# Altium schematic symbol library Circuitos Integrados.SchLib: 43 symbols
Pins are listed as number, name and electrical type; pins without a type are passive.

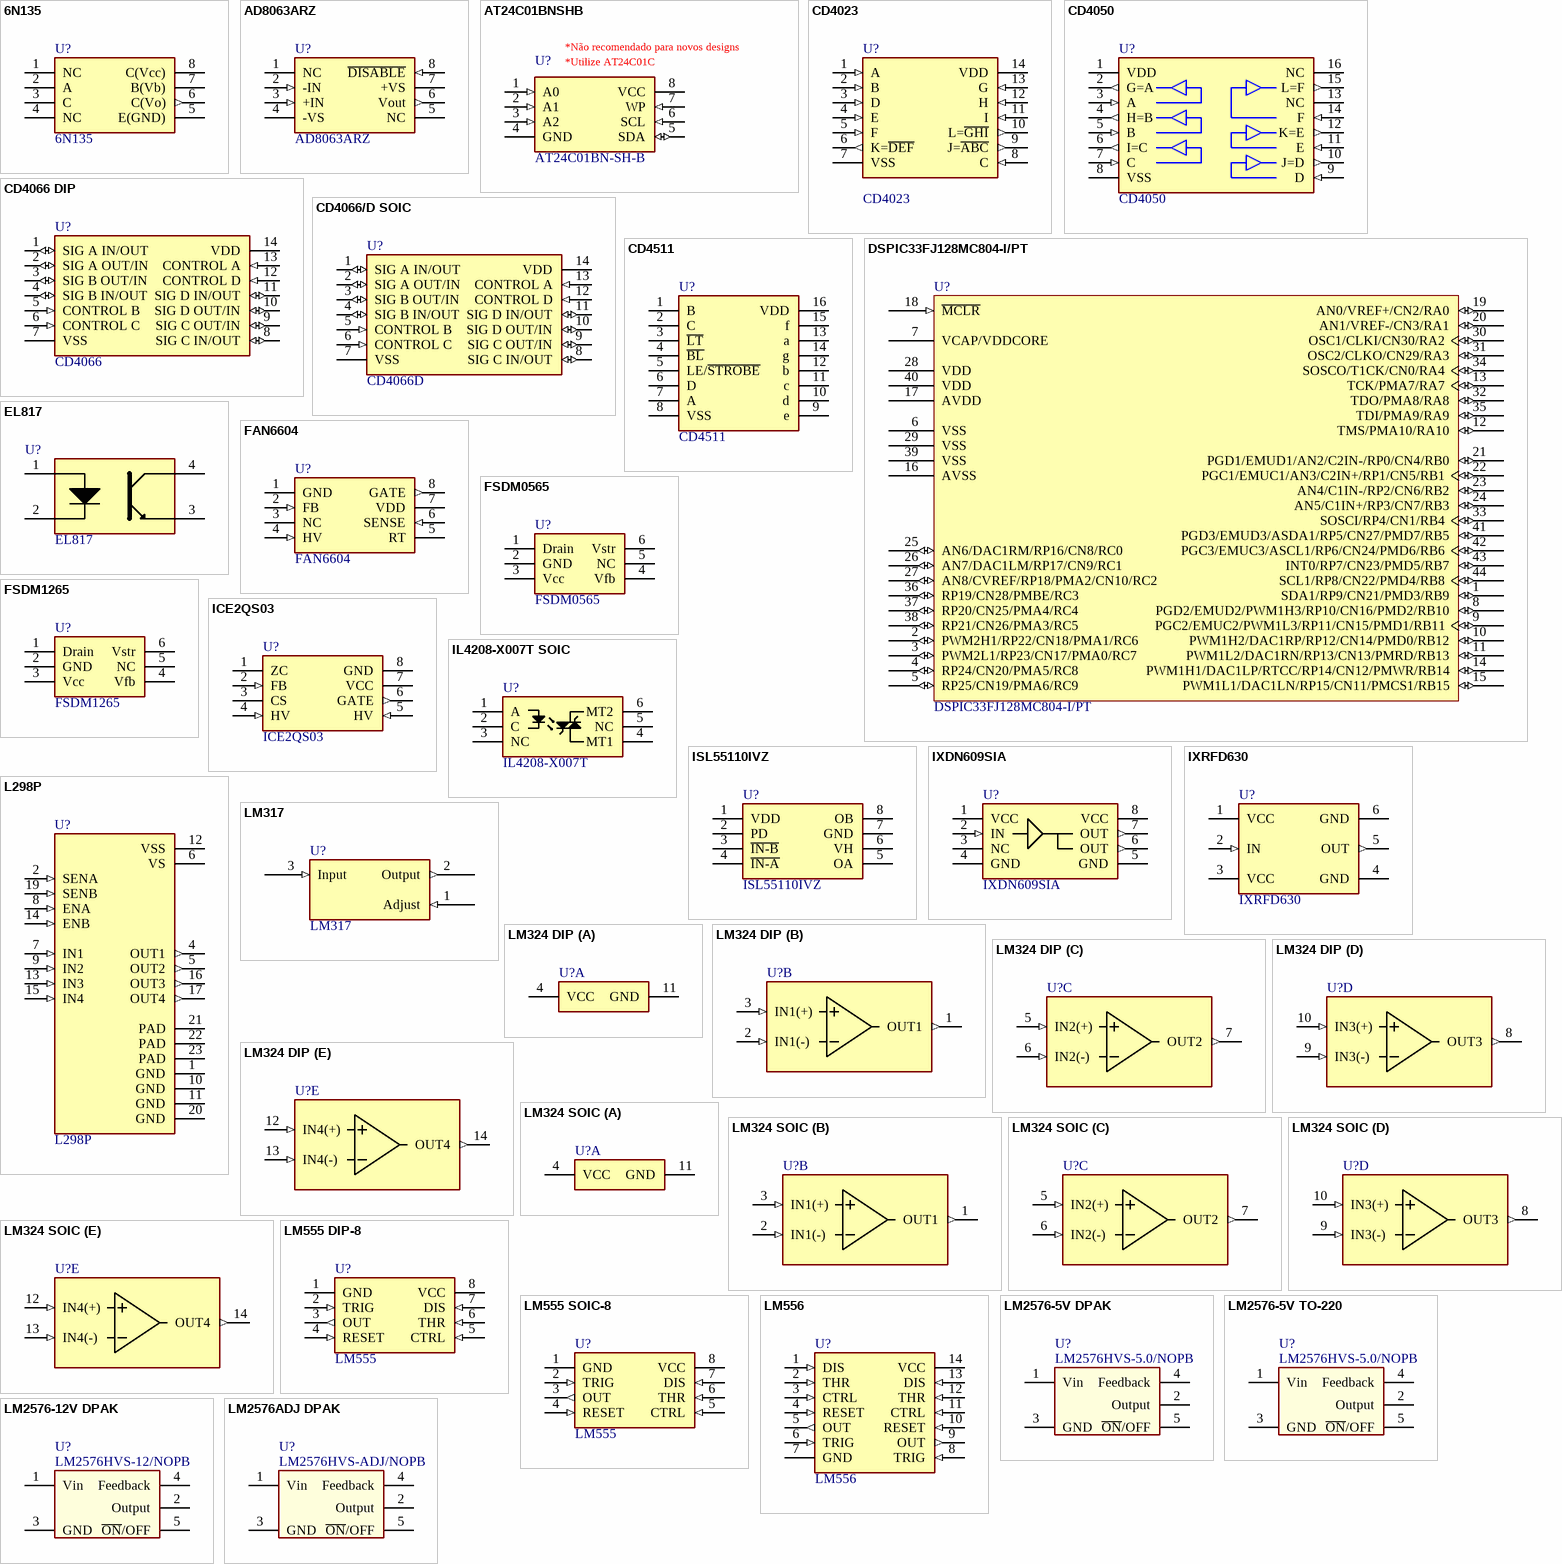
[diagram p0: symbols 6N135 to LM2576ADJ DPAK]

## 6N135
designator U?
6N135 HIGH SPEED OPTOCOUPLER; Montagem: PTH; ComponentLink1Description: Datasheet; ComponentLink1URL: http://www.vishay.com/docs/83604/6n135.pdf; Supplier 1: Farnell; Supplier Part Number 1: 1021342; Valor/Partnumber: 6N135
footprint DIP8
pins: 1 NC (hiz), 2 A (power), 3 C (power), 4 NC (hiz), 5 E(GND) (power), 6 C(Vo) (out), 7 B(Vb), 8 C(Vcc) (power)

## AD8063ARZ
designator U?
AD8063ARZ Rail-to-Rail Amplifiers; Montagem: SMD; ComponentLink1Description: Datasheet; ComponentLink1URL: http://www.analog.com/media/en/technical-documentation/data-sheets/AD8061_8062_8063.pdf; Supplier 1: Newark; Supplier Part Number 1: 59K6312; Valor/Partnumber: AD8063ARZ
footprint SOIC-8 (SOIC, 8-Leads, Body 5,0x4,0mm (max), Pitch 1,27mm, IPC Medium Density)
pins: 1 NC (hiz), 2 -IN (in), 3 +IN (in), 4 -VS (power), 5 NC (hiz), 6 Vout (out), 7 +VS (power), 8 ~{DISABLE} (in)

## AT24C01BNSHB
designator U?, comment Valor/Partnumber: AT24C01BN-SH-B  (hidden comment: Two wire Serial EEPROM)
Montagem: SMD; Fabricante: Atmel; ComponentLink1Description: Datasheet; ComponentLink1URL: http://www.atmel.com/Images/doc5156.pdf; Supplier 1: Mouser; Supplier Part Number 1: 556-A24C01BNSH-B
footprint SOIC-8 (SOIC, 8-Leads, Body 5,0x4,0mm (max), Pitch 1,27mm, IPC Medium Density)
pins: 1 A0 (in), 2 A1 (in), 3 A2 (in), 4 GND (power), 5 SDA (io), 6 SCL (in), 7 WP (in), 8 VCC (power)
text: *Não recomendado para novos designs; *Utilize AT24C01C

## CD4023
designator U?
Montagem: PTH; ComponentLink1Description: Datasheet; Valor/Partnumber: CD4023
footprint DIP14
pins: 1 A (in), 2 B (in), 3 D (in), 4 E (in), 5 F (in), 6 K=~{DEF} (out), 7 VSS (power), 8 C (in), 9 J=~{ABC} (out), 10 L=~{GHI} (out), 11 I (in), 12 H (in), 13 G (in), 14 VDD (power)

## CD4050
designator U?
CD4050 Hex Non-Inverting Buffer; Montagem: PTH; ComponentLink1Description: Datasheet; ComponentLink1URL: https://www.fairchildsemi.com/datasheets/CD/CD4049UBC.pdf; Supplier 1: Farnell; Supplier Part Number 1: 1106108; Valor/Partnumber: CD4050
footprint DIP16
pins: 1 VDD (power), 2 G=A (out), 3 A (in), 4 H=B (out), 5 B (in), 6 I=C (out), 7 C (in), 8 VSS (power), 9 D (in), 10 J=D (out), 11 E (in), 12 K=E (out), 13 NC (hiz), 14 F (in), 15 L=F (out), 16 NC (hiz)

## CD4066 DIP
designator U?  Valor/Partnumber: CD4066  (hidden comment: CD4066 DIP)
CD4066 CMOS BILATERAL SWITCH; Montagem: PTH; ComponentLink1Description: Datasheet; ComponentLink1URL: http://www.ti.com/lit/ds/symlink/cd4066b.pdf; Supplier 1: Digi-Key; Supplier Part Number 1: 296-2061-5-ND
footprint DIP14
pins: 1 SIG A IN/OUT (io), 2 SIG A OUT/IN (io), 3 SIG B OUT/IN (io), 4 SIG B IN/OUT (io), 5 CONTROL B (in), 6 CONTROL C (in), 7 VSS (power), 8 SIG C IN/OUT (io), 9 SIG C OUT/IN (io), 10 SIG D OUT/IN (io), 11 SIG D IN/OUT (io), 12 CONTROL D (in), 13 CONTROL A (in), 14 VDD (power)

## CD4066/D SOIC
designator U?  Valor/Partnumber: CD4066D  (hidden comment: CD4066/D SOIC)
CD4066 CMOS BILATERAL SWITCH; Montagem: SMD; ComponentLink1Description: Datasheet; ComponentLink1URL: http://www.ti.com/lit/ds/symlink/cd4066b.pdf; Supplier 1: Farnell; Supplier Part Number 1: 2334928
footprint SO-14 (SOIC, 14-Leads, Pitch 1,27mm)
pins: 1 SIG A IN/OUT (io), 2 SIG A OUT/IN (io), 3 SIG B OUT/IN (io), 4 SIG B IN/OUT (io), 5 CONTROL B (in), 6 CONTROL C (in), 7 VSS (power), 8 SIG C IN/OUT (io), 9 SIG C OUT/IN (io), 10 SIG D OUT/IN (io), 11 SIG D IN/OUT (io), 12 CONTROL D (in), 13 CONTROL A (in), 14 VDD (power)

## CD4511
designator U?
CD4511 CMOS BCD to 7 Segment Latch Decoder Drivers; Montagem: PTH; ComponentLink1Description: Datasheet; ComponentLink1URL: http://www.ti.com/lit/ds/symlink/cd4511b.pdf; Supplier 1: Mouser; Supplier Part Number 1: 595-CD4511BE; Valor/Partnumber: CD4511
footprint DIP16
pins: 1 B, 2 C, 3 ~{LT}, 4 ~{BL}, 5 LE/~{STROBE}, 6 D, 7 A, 8 VSS (power), 9 e, 10 d, 11 c, 12 b, 13 a, 14 g, 15 f, 16 VDD (power)

## DSPIC33FJ128MC804-I/PT
designator U?
High-Performance 16-bit Digital Signal Controller, 128 KB Flash, 16 KB RAM, 44-Pin TQFP
footprint TQFP-44 (TQFP, 44-Leads, Body 12,2x12,2mm (max), Pitch 0,80mm, IPC Medium Density)
pins: 1 SDA1/RP9/CN21/PMD3/RB9 (io), 2 PWM2H1/RP22/CN18/PMA1/RC6 (io), 3 PWM2L1/RP23/CN17/PMA0/RC7 (io), 4 RP24/CN20/PMA5/RC8 (io), 5 RP25/CN19/PMA6/RC9 (io), 6 VSS (power), 7 VCAP/VDDCORE (power), 8 PGD2/EMUD2/PWM1H3/RP10/CN16/PMD2/RB10 (io), 9 PGC2/EMUC2/PWM1L3/RP11/CN15/PMD1/RB11 (io), 10 PWM1H2/DAC1RP/RP12/CN14/PMD0/RB12 (io), 11 PWM1L2/DAC1RN/RP13/CN13/PMRD/RB13 (io), 12 TMS/PMA10/RA10 (io), 13 TCK/PMA7/RA7 (io), 14 PWM1H1/DAC1LP/RTCC/RP14/CN12/PMWR/RB14 (io), 15 PWM1L1/DAC1LN/RP15/CN11/PMCS1/RB15 (io), 16 AVSS (power), 17 AVDD (power), 18 ~{MCLR} (in), 19 AN0/VREF+/CN2/RA0 (io), 20 AN1/VREF-/CN3/RA1 (io), 21 PGD1/EMUD1/AN2/C2IN-/RP0/CN4/RB0 (io), 22 PGC1/EMUC1/AN3/C2IN+/RP1/CN5/RB1 (io), 23 AN4/C1IN-/RP2/CN6/RB2 (io), 24 AN5/C1IN+/RP3/CN7/RB3 (io), 25 AN6/DAC1RM/RP16/CN8/RC0 (io), 26 AN7/DAC1LM/RP17/CN9/RC1 (io), 27 AN8/CVREF/RP18/PMA2/CN10/RC2 (io), 28 VDD (power), 29 VSS (power), 30 OSC1/CLKI/CN30/RA2 (io), 31 OSC2/CLKO/CN29/RA3 (io), 32 TDO/PMA8/RA8 (io), 33 SOSCI/RP4/CN1/RB4 (io), 34 SOSCO/T1CK/CN0/RA4 (io), 35 TDI/PMA9/RA9 (io), 36 RP19/CN28/PMBE/RC3 (io), 37 RP20/CN25/PMA4/RC4 (io), 38 RP21/CN26/PMA3/RC5 (io), 39 VSS (power), 40 VDD (power), 41 PGD3/EMUD3/ASDA1/RP5/CN27/PMD7/RB5 (io), 42 PGC3/EMUC3/ASCL1/RP6/CN24/PMD6/RB6 (io), 43 INT0/RP7/CN23/PMD5/RB7 (io), 44 SCL1/RP8/CN22/PMD4/RB8 (io)

## EL817
designator U?
EL817 PHOTOTRANSISTOR PHOTOCOUPLER; Montagem: PTH; ComponentLink1Description: Datasheet; ComponentLink1URL: http://www.everlight.com/file/ProductFile/EL817.pdf; Supplier 1: TME; Supplier Part Number 1: EL817; Valor/Partnumber: EL817
footprint DIP4
pins: 1 Anode, 2 Cathode, 3 Emitter, 4 Collector

## FAN6604
designator U?
Montagem: SMD; ComponentLink1Description: Datasheet; ComponentLink1URL: https://www.fairchildsemi.com/datasheets/FA/FAN6604.pdf; Fabricante: *; Supplier 1: Digi-Key; Supplier Part Number 1: FAN6604MRMXDKR-ND; Valor/Partnumber: FAN6604
footprint SOIC-8 (SOIC, 8-Leads, Body 5,0x4,0mm (max), Pitch 1,27mm, IPC Medium Density)
pins: 1 GND (power), 2 FB (in), 3 NC (hiz), 4 HV (in), 5 RT, 6 SENSE (in), 7 VDD (power), 8 GATE (out)

## FSDM0565
designator U?
FSDM0565 Green Mode Fairchild Power Switch; Montagem: PTH; ComponentLink1Description: Datasheet; ComponentLink1URL: https://www.fairchildsemi.com/datasheets/FS/FSDM0565RB.pdf; Fabricante: *; Supplier 1: Mouser; Supplier Part Number 1: 512-FSDM0565REWDTU; Valor/Partnumber: FSDM0565
footprint TO-220L-6F
pins: 1 Drain, 2 GND (power), 3 Vcc (power), 4 Vfb, 5 NC (hiz), 6 Vstr

## FSDM1265
designator U?
FSDM1265 Green Mode Fairchild Power Switch; Montagem: PTH; ComponentLink1Description: Datasheet; ComponentLink1URL: https://www.fairchildsemi.com/datasheets/FS/FSDM1265RB.pdf; Fabricante: *; Supplier 1: Digi-Key; Supplier Part Number 1: FSDM1265RBWDTU-ND; Valor/Partnumber: FSDM1265
footprint TO-220L-6F
pins: 1 Drain, 2 GND (power), 3 Vcc (power), 4 Vfb, 5 NC (hiz), 6 Vstr

## ICE2QS03
designator U?
Montagem: PTH; ComponentLink1Description: Datasheet; ComponentLink1URL: http://www.infineon.com/dgdl/Infineon-ICE2QS03-DS-v02_02-en.pdf?fileId=db3a304325305e6d012566b50ebd7070; Fabricante: *; Supplier 1: Mouser; Supplier Part Number 1: 726-ICE2QS03XKLA1; Valor/Partnumber: ICE2QS03
footprint DIP8
pins: 1 ZC, 2 FB (in), 3 CS, 4 HV (in), 5 HV (in), 6 GATE (out), 7 VCC (power), 8 GND (power)

## IL4208-X007T SOIC
designator U?, comment IL4208-X007T
Montagem: SMD; ComponentLink1Description: Datasheet; ComponentLink1URL: http://www.vishay.com/docs/83629/il420.pdf; Supplier 1: Digi-Key; Supplier Part Number 1: IL4208-X007-ND; Valor/Partnumber: IL4208-X007T
footprint SO6-IL4208-X007T
pins: 1 A (power), 2 C (power), 3 NC (hiz), 4 MT1, 5 NC (hiz), 6 MT2

## ISL55110IVZ
designator U?
Montagem: SMD; Fabricante: Intersil; ComponentLink1Description: Datasheet; ComponentLink1URL: http://www.intersil.com/content/dam/Intersil/documents/isl5/isl55110-11.pdf; Supplier 1: Mouser; Supplier Part Number 1: 968-ISL55110IVZ; Valor/Partnumber: ISL55110IVZ
footprint TSSOP-8 (TSSOP, 8-Leads, Body 3,1x4,5mm (max), Pitch 0,65mm, IPC Low Density)
pins: 1 VDD (power), 2 PD, 3 ~{IN-B}, 4 ~{IN-A}, 5 OA, 6 VH, 7 GND (power), 8 OB

## IXDN609SIA
designator U?
IXDN609SIA 9-Ampere Low-Side  Ultrafast MOSFET Drivers; Montagem: SMD; ComponentLink1Description: Datasheet; ComponentLink1URL: http://www.ixysic.com/home/pdfs.nsf/www/IXD_609.pdf/$file/IXD_609.pdf; Fabricante: *; Supplier 1: Digi-Key; Supplier Part Number 1: IXDN609SIA-ND; Valor/Partnumber: IXDN609SIA
footprint SOIC-8 (SOIC, 8-Leads, Body 5,0x4,0mm (max), Pitch 1,27mm, IPC Medium Density)
pins: 1 VCC (power), 2 IN (in), 3 NC (hiz), 4 GND (power), 5 GND (power), 6 OUT (out), 7 OUT (out), 8 VCC (power)

## IXRFD630
designator U?
Montagem: SMD; ComponentLink1Description: Datasheet; ComponentLink1URL: *; Fabricante: *; Valor/Partnumber: IXRFD630
footprint DE_series
pins: 1 VCC (power), 2 IN (in), 3 VCC (power), 4 GND (power), 5 OUT (out), 6 GND (power)

## L298P
designator U?
L298 Series Dual Full Bridge 4 A 46 V Driver Surface Mount - PowerSO-20
footprint SOIC127P1420X360-20N
pins: 1 GND, 2 SENA (in), 4 OUT1 (out), 5 OUT2 (out), 6 VS (power), 7 IN1 (in), 8 ENA (in), 9 IN2 (in), 10 GND, 11 GND, 12 VSS (power), 13 IN3 (in), 14 ENB (in), 15 IN4 (in), 16 OUT3 (out), 17 OUT4 (out), 19 SENB (in), 20 GND, 21 PAD, 22 PAD, 23 PAD

## LM317
designator U?
LM317 3-Terminal Adjustable Regulator; Montagem: PTH; ComponentLink1Description: Datasheet; ComponentLink1URL: http://www.ti.com/lit/ds/symlink/lm317.pdf; Supplier 1: Farnell; Supplier Part Number 1: 1652293; Valor/Partnumber: LM317
footprint TO-220 (TO, Thru-Hole, Vertical, Heatsink Mounted; 3 In-Line Leads; Pitch 2.54 mm)
pins: 1 Adjust (in), 2 Output (out), 3 Input (in)

## LM324 DIP
designator U?  (value not drawn)
LM324 DIP Quad Operational Amplifier; Montagem: PTH; ComponentLink1Description: Datasheet; ComponentLink1URL: https://www.fairchildsemi.com/datasheets/LM/LM324.pdf; Fabricante: *; Supplier 1: TME; Supplier Part Number 1: LM324AN; Valor/Partnumber: LM324
footprint DIP14
part A pins: 4 VCC (power), 11 GND (power)
part B pins: 1 OUT1 (out), 2 IN1(-) (in), 3 IN1(+) (in)
part C pins: 5 IN2(+) (in), 6 IN2(-) (in), 7 OUT2 (out)
part D pins: 8 OUT3 (out), 9 IN3(-) (in), 10 IN3(+) (in)
part E pins: 12 IN4(+) (in), 13 IN4(-) (in), 14 OUT4 (out)

## LM324 SOIC
designator U?  (value not drawn)
LM324 SOIC Quad Operational Amplifier; Montagem: SMD; ComponentLink1Description: Datasheet; ComponentLink1URL: https://www.fairchildsemi.com/datasheets/LM/LM324.pdf; Fabricante: *; Valor/Partnumber: LM324
footprint DIP14
part A pins: 4 VCC (power), 11 GND (power)
part B pins: 1 OUT1 (out), 2 IN1(-) (in), 3 IN1(+) (in)
part C pins: 5 IN2(+) (in), 6 IN2(-) (in), 7 OUT2 (out)
part D pins: 8 OUT3 (out), 9 IN3(-) (in), 10 IN3(+) (in)
part E pins: 12 IN4(+) (in), 13 IN4(-) (in), 14 OUT4 (out)

## LM555 DIP-8
designator U?, comment Valor/Partnumber: LM555  (hidden comment: LM555 Timer)
LM555 Timer DIP; Montagem: PTH; Fabricante: Texas; ComponentLink1Description: Datasheet; ComponentLink1URL: http://www.ti.com/lit/ds/symlink/lm555.pdf; Supplier 1: Farnell; Supplier Part Number 1: 9589899
footprint DIP8
pins: 1 GND (power), 2 TRIG (in), 3 OUT (out), 4 RESET (in), 5 CTRL (in), 6 THR (in), 7 DIS (in), 8 VCC (power)

## LM555 SOIC-8
designator U?, comment Valor/Partnumber: LM555  (hidden comment: LM555 Timer SOIC)
Montagem: SMD; Fabricante: Texas; ComponentLink1Description: Datasheet; ComponentLink1URL: http://www.ti.com/lit/ds/symlink/lm555.pdf; Supplier 1: Digi-Key; Supplier Part Number 1: LM555CMM/NOPBCT-ND
footprint SOIC-8 (SOIC, 8-Leads, Body 5,0x4,0mm (max), Pitch 1,27mm, IPC Medium Density)
pins: 1 GND (power), 2 TRIG (in), 3 OUT (out), 4 RESET (in), 5 CTRL (in), 6 THR (in), 7 DIS (in), 8 VCC (power)

## LM556
designator U?, comment Valor/Partnumber: LM556  (hidden comment: LM556 Dual Timer)
Montagem: PTH; Fabricante: Texas; ComponentLink1Description: Datasheet; ComponentLink1URL: http://www.ti.com/lit/ds/symlink/lm556.pdf
footprint DIP14
pins: 1 DIS (in), 2 THR (in), 3 CTRL (in), 4 RESET (in), 5 OUT (out), 6 TRIG (in), 7 GND (power), 8 TRIG (in), 9 OUT (out), 10 RESET (in), 11 CTRL (in), 12 THR (in), 13 DIS (in), 14 VCC (power)

## LM2576-5V DPAK
designator U?  (value not drawn)
LM2576HVS-5.0/NOPB; Montagem: SMD; ComponentLink1Description: Datasheet; ComponentLink1URL: http://www.ti.com/product/LM2576; Supplier 1: Digi-Key; Supplier Part Number 1: LM2576HVSX-5.0/NOPBTR-ND; Valor/Partnumber: LM2576HVS-5.0/NOPB
footprint DPAK -TO263 - 5 leads
pins: 1 Vin (power), 2 Output (power), 3 GND (power), 4 Feedback, 5 ~{ON}/OFF

## LM2576-5V TO-220
designator U?  (value not drawn)
LM2576HVS-5.0/NOPB; Montagem: PTH; ComponentLink1Description: Datasheet; ComponentLink1URL: http://www.ti.com/lit/ds/symlink/lm2576.pdf; Supplier 1: TME; Supplier Part Number 1: LM2576HVT-5; Valor/Partnumber: LM2576HVS-5.0/NOPB
footprint TO-220-5
pins: 1 Vin (power), 2 Output (power), 3 GND (power), 4 Feedback, 5 ~{ON}/OFF

## LM2576-12V DPAK
designator U?  (value not drawn)
LM2576HVS-12/NOPB; Montagem: SMD; ComponentLink1Description: Datasheet; ComponentLink1URL: http://www.ti.com/product/LM2576; Supplier 1: Newark; Supplier Part Number 1: 05W5553; Valor/Partnumber: LM2576HVS-12/NOPB
footprint DPAK -TO263 - 5 leads
pins: 1 Vin (power), 2 Output (power), 3 GND (power), 4 Feedback, 5 ~{ON}/OFF

## LM2576ADJ DPAK
designator U?  (value not drawn)
LM2576HVS-ADJ/NOPB; Montagem: SMD; ComponentLink1Description: Datasheet; ComponentLink1URL: http://www.ti.com/product/LM2576; Supplier 1: Digi-Key; Supplier Part Number 1: LM2576HVSX-ADJ/NOPBCT-ND; Valor/Partnumber: LM2576HVS-ADJ/NOPB
footprint DPAK -TO263 - 5 leads
pins: 1 Vin (power), 2 Output (power), 3 GND (power), 4 Feedback, 5 ~{ON}/OFF

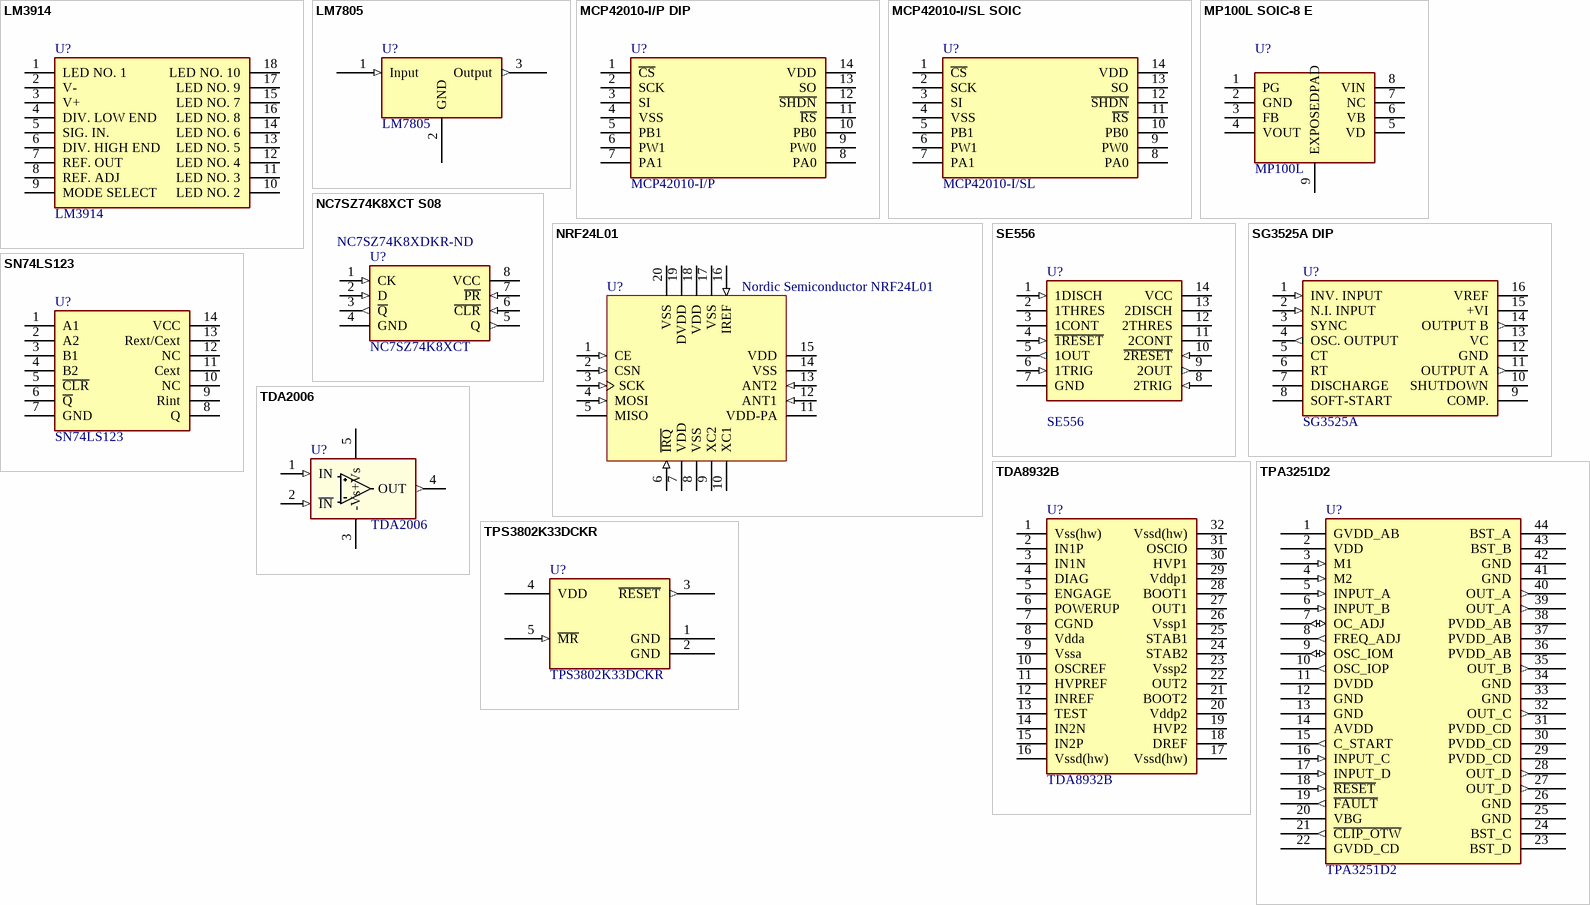
[diagram p1: symbols LM3914 to TPS3802K33DCKR]

## LM3914
designator U?
Montagem: PTH; ComponentLink1Description: Datasheet; ComponentLink1URL: http://www.ti.com/lit/ds/symlink/lm3914.pdf; Supplier 1: Farnell; Supplier Part Number 1: 1523830; Valor/Partnumber: LM3914
footprint DIP18
pins: 1 LED NO. 1, 2 V- (power), 3 V+ (power), 4 DIV. LOW END, 5 SIG. IN., 6 DIV. HIGH END, 7 REF. OUT, 8 REF. ADJ, 9 MODE SELECT, 10 LED NO. 2, 11 LED NO. 3, 12 LED NO. 4, 13 LED NO. 5, 14 LED NO. 6, 15 LED NO. 7, 16 LED NO. 8, 17 LED NO. 9, 18 LED NO. 10

## LM7805
designator U?
Montagem: PTH; ComponentLink1Description: Datasheet; ComponentLink1URL: *; Valor/Partnumber: LM7805
footprint TO-220 (TO, Thru-Hole, Vertical, Heatsink Mounted; 3 In-Line Leads; Pitch 2.54 mm)
pins: 1 Input (in), 2 GND (power), 3 Output (out)

## MCP42010-I/P DIP
designator U?  Valor/Partnumber: MCP42010-I/P  (hidden comment: MCP42010-I/P DIP)
MCP42010-I/P Dual Digital Potentiometer with SPI Interface; Montagem: PTH; ComponentLink1Description: Datasheet; ComponentLink1URL: http://ww1.microchip.com/downloads/en/DeviceDoc/11195c.pdf; Supplier 1: Farnell; Supplier Part Number 1: 9758615
footprint DIP14
pins: 1 ~{CS}, 2 SCK, 3 SI, 4 VSS (power), 5 PB1, 6 PW1, 7 PA1, 8 PA0, 9 PW0, 10 PB0, 11 ~{RS}, 12 ~{SHDN}, 13 SO, 14 VDD (power)

## MCP42010-I/SL SOIC
designator U?  Valor/Partnumber: MCP42010-I/SL  (hidden comment: MCP42010-I/SL SOIC)
MCP42010-I/SL Dual Digital Potentiometer with SPI Interface; Montagem: SMD; ComponentLink1Description: Datasheet; ComponentLink1URL: http://ww1.microchip.com/downloads/en/DeviceDoc/11195c.pdf
footprint SO-14 (SOIC, 14-Leads, Pitch 1,27mm)
pins: 1 ~{CS}, 2 SCK, 3 SI, 4 VSS (power), 5 PB1, 6 PW1, 7 PA1, 8 PA0, 9 PW0, 10 PB0, 11 ~{RS}, 12 ~{SHDN}, 13 SO, 14 VDD (power)

## MP100L SOIC-8 E
designator U?, comment MP100L
MP100L SOIC-8 E; Montagem: PTH; ComponentLink1Description: Datasheet; ComponentLink1URL: *; Valor/Partnumber: MP100L
footprint SOIC-8E (SOIC, 8-Leads, Body 5,0x4,0mm (max), Pitch 1,27mm, IPC Medium Density)
pins: 1 PG, 2 GND (power), 3 FB, 4 VOUT (power), 5 VD, 6 VB, 7 NC, 8 VIN (power), 9 EXPOSEDPAD

## NC7SZ74K8XCT S08
designator U?  Valor/Partnumber: NC7SZ74K8XCT  Supplier Part Number 1: NC7SZ74K8XDKR-ND  (hidden comment: NC7SZ74K8XCT S08)
Flip Flop D; Montagem: SMD; Fabricante: Fairchild; ComponentLink1Description: Datasheet; ComponentLink1URL: *; Supplier 1: Digi-Key
footprint US8
pins: 1 CK (in), 2 D (in), 3 ~{Q} (out), 4 GND (power), 5 Q (out), 6 ~{CLR} (in), 7 ~{PR} (in), 8 VCC (power)

## NRF24L01
designator U?, comment Nordic Semiconductor NRF24L01
Ic Txrx 2.4ghz Enh/b Shock 20qfn
footprint nRF2401 (QFN20G-0.5-4X4MM)
pins: 1 CE (in), 2 CSN (in), 3 SCK (in), 4 MOSI (in), 5 MISO (hiz), 6 ~{IRQ} (in), 7 VDD (power), 8 VSS, 9 XC2, 10 XC1, 11 VDD-PA (power), 12 ANT1 (in), 13 ANT2 (in), 14 VSS (power), 15 VDD (power), 16 IREF (in), 17 VSS (power), 18 VDD (power), 19 DVDD (power), 20 VSS (power)

## SE556
designator U?
Montagem: PTH; ComponentLink1Description: Datasheet; Valor/Partnumber: SE556
footprint DIP14
pins: 1 1DISCH (in), 2 1THRES, 3 1CONT, 4 ~{1RESET} (in), 5 1OUT (out), 6 1TRIG (in), 7 GND (power), 8 2TRIG (in), 9 2OUT (out), 10 ~{2RESET} (in), 11 2CONT, 12 2THRES, 13 2DISCH, 14 VCC (power)

## SG3525A DIP
designator U?  Valor/Partnumber: SG3525A  (hidden comment: SG3525A DIP)
CIRCUITO INTEGRADO SG3525A; Montagem: PTH; Fabricante: ST; ComponentLink1Description: Datasheet; ComponentLink1URL: http://www.st.com/web/en/resource/technical/document/datasheet/CD00000958.pdf; Supplier 1: Farnell; Supplier Part Number 1: 1564368
footprint DIP16
pins: 1 INV. INPUT (in), 2 N.I. INPUT (in), 3 SYNC, 4 OSC. OUTPUT (out), 5 CT, 6 RT, 7 DISCHARGE, 8 SOFT-START, 9 COMP., 10 SHUTDOWN, 11 OUTPUT A (out), 12 GND (power), 13 VC (power), 14 OUTPUT B (out), 15 +VI (power), 16 VREF (power)

## SN74LS123
designator U?
SN74LS123 RETRIGGERABLE MONOSTABLE MULTIVIBRATORS; Montagem: PTH; ComponentLink1Description: Datasheet; ComponentLink1URL: http://www.ti.com/lit/ds/symlink/sn74ls123.pdf; Supplier 1: Farnell; Supplier Part Number 1: 1470902; Valor/Partnumber: SN74LS123
footprint DIP14
pins: 1 A1, 2 A2, 3 B1, 4 B2, 5 ~{CLR}, 6 ~{Q}, 7 GND (power), 8 Q, 9 Rint, 10 NC (hiz), 11 Cext, 12 NC (hiz), 13 Rext/Cext, 14 VCC (power)

## TDA2006
designator U?
TDA2006 12W AUDIO AMPLIFIER; Montagem: PTH; ComponentLink1Description: Datasheet; ComponentLink1URL: http://www.st.com/web/en/resource/technical/document/datasheet/CD00000125.pdf; Supplier 1: Digi-Key; Supplier Part Number 1: 497-8861-5-ND; Valor/Partnumber: TDA2006
footprint TO-220-5
pins: 1 IN (in), 2 ~{IN} (in), 3 -Vs (power), 4 OUT (out), 5 +Vs (power)

## TDA8932B
designator U?
TDA8932B Class-D audio amplifier; Montagem: SMD; ComponentLink1Description: Datasheet; ComponentLink1URL: http://www.nxp.com/documents/data_sheet/TDA8932B.pdf; Supplier 1: Digi-Key; Supplier Part Number 1: 568-8760-5-ND; Valor/Partnumber: TDA8932B
footprint HTSSOP32 (TSOP, 32-Leads, Body 11,00x6,10mm, Pitch 0,65mm, IPC Medium Density)
pins: 1 Vss(hw), 2 IN1P, 3 IN1N, 4 DIAG, 5 ENGAGE, 6 POWERUP, 7 CGND, 8 Vdda, 9 Vssa, 10 OSCREF, 11 HVPREF, 12 INREF, 13 TEST, 14 IN2N, 15 IN2P, 16 Vssd(hw), 17 Vssd(hw), 18 DREF, 19 HVP2, 20 Vddp2, 21 BOOT2, 22 OUT2, 23 Vssp2, 24 STAB2, 25 STAB1, 26 Vssp1, 27 OUT1, 28 BOOT1, 29 Vddp1, 30 HVP1, 31 OSCIO, 32 Vssd(hw)

## TPA3251D2
designator U?
Fabricante: Texas Instruments; Montagem: SMD; ComponentLink1URL: http://www.ti.com/lit/ds/symlink/tpa3251d2.pdf; ComponentLink1Description: Datasheet; Supplier 1: Digi-Key; Supplier Part Number 1: 296-42310-5-ND; Valor/Partnumber: TPA3251D2
footprint TSSOP44
pins: 1 GVDD_AB (power), 2 VDD (power), 3 M1 (in), 4 M2 (in), 5 INPUT_A (in), 6 INPUT_B (in), 7 OC_ADJ (io), 8 FREQ_ADJ (out), 9 OSC_IOM (io), 10 OSC_IOP (out), 11 DVDD (power), 12 GND (power), 13 GND (power), 14 AVDD (power), 15 C_START (out), 16 INPUT_C (in), 17 INPUT_D (in), 18 ~{RESET} (in), 19 ~{FAULT} (out), 20 VBG (power), 21 ~{CLIP_OTW} (out), 22 GVDD_CD (power), 23 BST_D (power), 24 BST_C (power), 25 GND (power), 26 GND (power), 27 OUT_D (out), 28 OUT_D (out), 29 PVDD_CD (power), 30 PVDD_CD (power), 31 PVDD_CD (power), 32 OUT_C (out), 33 GND (power), 34 GND (power), 35 OUT_B (out), 36 PVDD_AB (power), 37 PVDD_AB (power), 38 PVDD_AB (power), 39 OUT_A (out), 40 OUT_A (out), 41 GND (power), 42 GND (power), 43 BST_B (power), 44 BST_A (power)

## TPS3802K33DCKR
designator U?
ULTRA-SMALL SUPPLY VOLTAGE SUPERVISORS; Fabricante: Texas Instruments; Montagem: SMD; ComponentLink1Description: Datasheet; ComponentLink1URL: http://www.ti.com/lit/ds/symlink/tps3802k33.pdf; Supplier 1: Digi-Key; Supplier Part Number 1: 296-12386-1-ND; Valor/Partnumber: TPS3802K33DCKR
footprint SC70-5 (SC-70, 5-Leads)
pins: 1 GND (power), 2 GND (power), 3 ~{RESET} (out), 4 VDD (power), 5 ~{MR} (in)